# EAGLE library part LM22677TJE-ADJ/NOPB (library BM_pre)
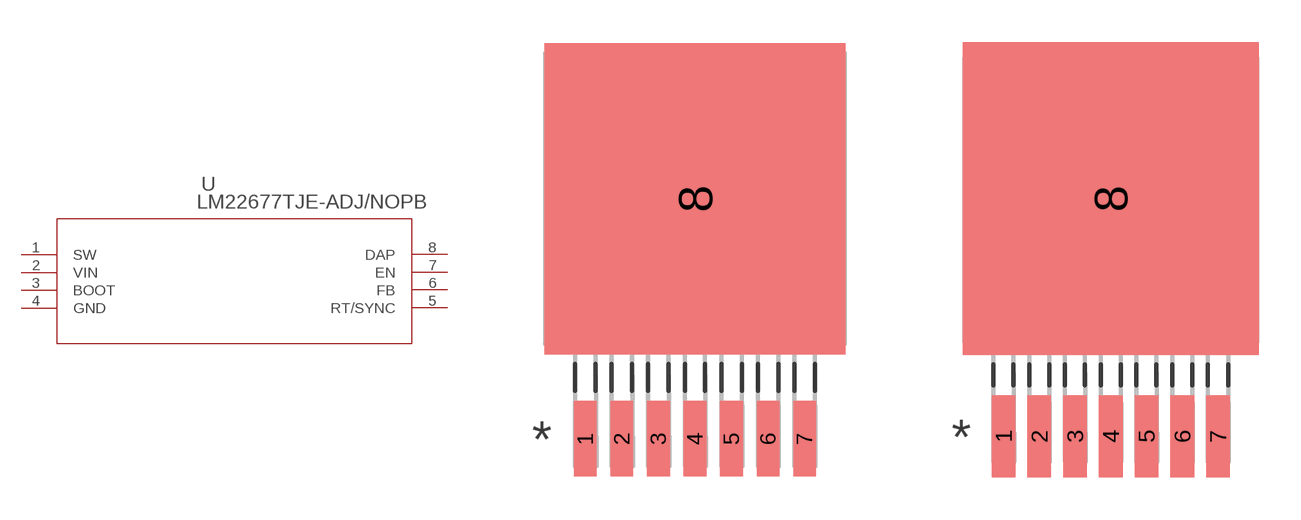
[diagram p4: symbol with the pads of TJ7A; footprints TJ7A, TJ7A-M]

Designator prefix -

## LM22677TJE-ADJ/NOPB (MANUFACTURER_PART_NUMBER: lm22677tjeadjnopb; VENDOR: National Semiconductor)  [TJ7A]
1  SW  pwr
2  VIN  pwr
3  BOOT  pas
4  GND  pwr
5  RT/SYNC  in
6  FB  in
7  EN  in
8  DAP  pwr

## LM22677TJE-ADJ/NOPBTJ7A-M (MANUFACTURER_PART_NUMBER: lm22677tjeadjnopb; VENDOR: National Semiconductor)  [TJ7A-M]
Pads as for TJ7A

## LM22677TJE-ADJ/NOPBTJ7A-L (MANUFACTURER_PART_NUMBER: lm22677tjeadjnopb; VENDOR: National Semiconductor)  [TJ7A-L]
Pads as for TJ7A

## Footprint TJ7A (pad centres in mm)
smd 0.787 x 2.616: 1 -3.81,-8.344; 2 -2.54,-8.344; 3 -1.27,-8.344; 4 0,-8.344; 5 1.27,-8.344; 6 2.54,-8.344; 7 3.81,-8.344
smd 10.465 x 10.82: 8 0,0

## Footprint TJ7A-M (pad centres in mm)
smd 0.838 x 2.921: 1 -3.81,-8.395; 2 -2.54,-8.395; 3 -1.27,-8.395; 4 0,-8.395; 5 1.27,-8.395; 6 2.54,-8.395; 7 3.81,-8.395
smd 10.516 x 11.125: 8 0,0.051

## Footprint TJ7A-L (pad centres in mm)
smd 0.737 x 2.311: 1 -3.81,-8.293; 2 -2.54,-8.293; 3 -1.27,-8.293; 4 0,-8.293; 5 1.27,-8.293; 6 2.54,-8.293; 7 3.81,-8.293
smd 10.414 x 10.516: 8 0,-0.051